# Altium schematic symbol library pcb_connector.SchLib: 1 symbol
Pins are listed as number, name and electrical type; pins without a type are passive.

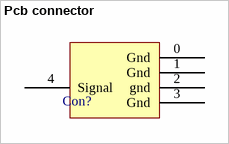
[diagram p0: symbol Pcb connector]

## Pcb connector
designator Con?  (value not drawn)
131-5031-00
pins: 0 Gnd, 1 Gnd, 2 gnd, 3 Gnd, 4 Signal